# Altium footprint library ICs.PcbLib: 8 footprints
Each footprint in its own frame and in the unit in brackets; x right, y up, seen from the top. Pads: shape width x height; smd on the part's side, far side on the other; paste and mask are expansions set on the pad; w line width, h text height; cw(c..) or ccw(c..) is an arc to the next point about the centre after c.
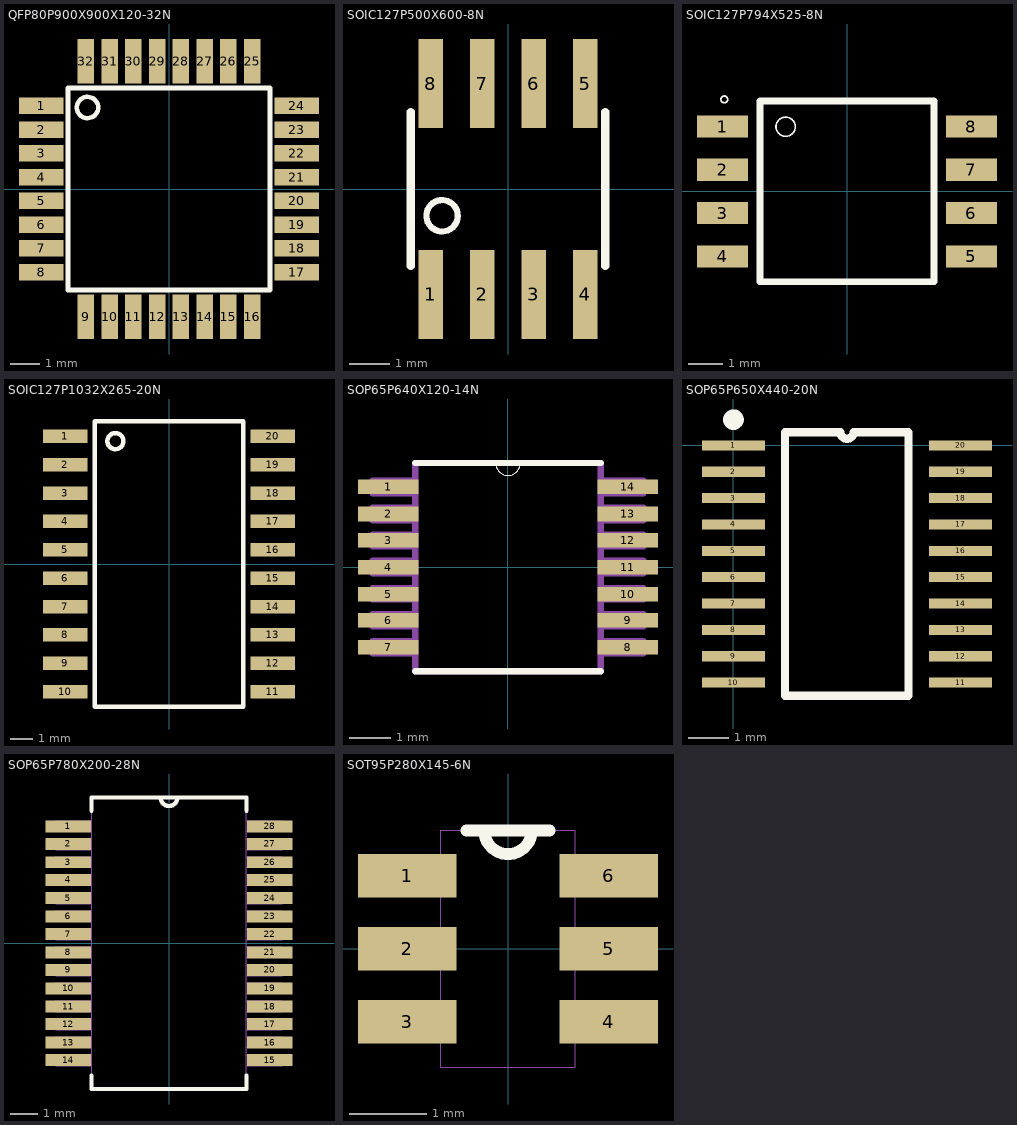
[diagram p0: the footprints below, top view; thin cyan lines are the x and y axes]

## QFP80P900X900X120-32N [mm]
pads (32):
  rect 1.5x0.55 smd: 1(-4.3,2.8) 2(-4.3,2) 3(-4.3,1.2) 4(-4.3,0.4) 5(-4.3,-0.4) 6(-4.3,-1.2) 7(-4.3,-2) 8(-4.3,-2.8) 17(4.3,-2.8) 18(4.3,-2) 19(4.3,-1.2) 20(4.3,-0.4) 21(4.3,0.4) 22(4.3,1.2) 23(4.3,2) 24(4.3,2.8)
  rect 0.55x1.5 smd: 9(-2.8,-4.3) 10(-2,-4.3) 11(-1.2,-4.3) 12(-0.4,-4.3) 13(0.4,-4.3) 14(1.2,-4.3) 15(2,-4.3) 16(2.8,-4.3) 25(2.8,4.3) 26(2,4.3) 27(1.2,4.3) 28(0.4,4.3) 29(-0.4,4.3) 30(-1.2,4.3) 31(-2,4.3) 32(-2.8,4.3)
Top Overlay:
  circle w0.152: c-2.743,2.743 r0.359
  lines w0.152: -3.4,-3.4 -3.4,3.4 3.4,3.4 3.4,-3.4 -3.4,-3.4

## SOIC127P500X600-8N [mm]
pads (8):
  rect 0.6x2.2 smd: 1(-1.905,-2.6) 2(-0.635,-2.6) 3(0.635,-2.6) 4(1.905,-2.6) 5(1.905,2.6) 6(0.635,2.6) 7(-0.635,2.6) 8(-1.905,2.6)
Top Overlay:
  circle w0.152: c-1.626,-0.66 r0.388
  lines w0.203: -2.4,-1.9 -2.4,-1.4 -2.4,1.9 ; 2.4,-1.9 2.4,-1.4 2.4,1.9
Mechanical 1:
  region: -2.152,3.1 -1.66,3.1 -1.66,2.002 -2.152,2.002
  region: -0.882,3.1 -0.39,3.1 -0.39,2.004 -0.882,2.004
  region: 0.391,3.1 0.88,3.1 0.88,2.005 0.391,2.005
  region: 1.663,3.1 2.15,3.1 2.15,2.004 1.663,2.004
  region: 1.662,-2 2.15,-2 2.15,-3.103 1.662,-3.103
  region: 0.39,-2 0.88,-2 0.88,-3.103 0.39,-3.103
  region: -0.882,-2 -0.39,-2 -0.39,-3.108 -0.882,-3.108
  region: -2.157,-2 -1.66,-2 -1.66,-3.11 -2.157,-3.11

## SOIC127P794X525-8N [mm]
pads (8):
  rect 1.5x0.65 smd: 1(-3.65,1.905) 2(-3.65,0.635) 3(-3.65,-0.635) 4(-3.65,-1.905) 5(3.65,-1.905) 6(3.65,-0.635) 7(3.65,0.635) 8(3.65,1.905)
Top Overlay:
  circle w0.05: c-1.8,1.9 r0.283
  circle w0.05: c-3.6,2.7 r0.1
  lines w0.2: -2.55,-2.65 2.55,-2.65 2.55,2.65 -2.55,2.65 -2.55,-2.65

## SOIC127P1032X265-20N [mm]
pads (20):
  rect 2x0.6 smd: 1(-4.65,5.715) 2(-4.65,4.445) 3(-4.65,3.175) 4(-4.65,1.905) 5(-4.65,0.635) 6(-4.65,-0.635) 7(-4.65,-1.905) 8(-4.65,-3.175) 9(-4.65,-4.445) 10(-4.65,-5.715) 11(4.65,-5.715) 12(4.65,-4.445) 13(4.65,-3.175) 14(4.65,-1.905) 15(4.65,-0.635) 16(4.65,0.635) 17(4.65,1.905) 18(4.65,3.175) 19(4.65,4.445) 20(4.65,5.715)
Top Overlay:
  circle w0.2: c-2.4,5.5 r0.361
  lines w0.2: -3.325,-6.4 3.325,-6.4 3.325,6.4 -3.325,6.4 -3.325,-6.4

## SOP65P640X120-14N [mil]
pads (14):
  rect 58x14 smd: 1(-115,77) 2(-115,51) 3(-115,26) 4(-115,0) 5(-115,-26) 6(-115,-51) 7(-115,-77) 8(115,-77) 9(115,-51) 10(115,-26) 11(115,0) 12(115,26) 13(115,51) 14(115,77)
Top Overlay:
  lines w0: -12,100 ccw(c0,100) 12,100
  lines w6: -89,-100 89,-100 ; -89,100 -12,100 12,100 89,100
Mechanical 1:
  lines w0: -12,100 ccw(c0,100) 12,100
  lines w6: -130,-83 -130,-71 -89,-71 -89,-83 -130,-83 ; -130,-57 -130,-45 -89,-45 -89,-57 -130,-57 ; -130,-31 -130,-20 -89,-20 -89,-31 -130,-31 ; -130,-6 -130,6 -89,6 -89,-6 -130,-6 ; -130,20 -130,31 -89,31 -89,20 -130,20 ; -130,45 -130,57 -89,57 -89,45 -130,45 ; -130,71 -130,83 -89,83 -89,71 -130,71 ; -89,-100 89,-100 89,100 12,100 -12,100 -89,100 -89,-100 ; 89,-83 89,-71 130,-71 130,-83 89,-83 ; 89,-57 89,-45 130,-45 130,-57 89,-57 ; 89,-31 89,-20 130,-20 130,-31 89,-31 ; 89,-6 89,6 130,6 130,-6 89,-6 ; 89,20 89,31 130,31 130,20 89,20 ; 89,45 89,57 130,57 130,45 89,45 ; 89,71 89,83 130,83 130,71 89,71

## SOP65P650X440-20N [mm]
pads (20):
  rect 1.55x0.25 smd: 1(0,0) 2(0,-0.65) 3(0,-1.3) 4(0,-1.95) 5(0,-2.6) 6(0,-3.25) 7(0,-3.9) 8(0,-4.55) 9(0,-5.2) 10(0,-5.85) 11(5.6,-5.85) 12(5.6,-5.2) 13(5.6,-4.55) 14(5.6,-3.9) 15(5.6,-3.25) 16(5.6,-2.6) 17(5.6,-1.95) 18(5.6,-1.3) 19(5.6,-0.65) 20(5.6,0)
Top Overlay:
  circle w0.254: c0,0.635 r0.127
  lines w0.2: 1.27,-6.175 1.27,0.325 2.638,0.325 ccw(c2.8,0.325) 2.962,0.325 4.318,0.325 4.318,-6.175 1.27,-6.175

## SOP65P780X200-28N [mil]
pads (28):
  rect 65x17 smd: 1(-143,166) 2(-143,141) 3(-143,115) 4(-143,90) 5(-143,64) 6(-143,38) 7(-143,13) 8(-143,-13) 9(-143,-38) 10(-143,-64) 11(-143,-90) 12(-143,-115) 13(-143,-141) 14(-143,-166) 15(143,-166) 16(143,-141) 17(143,-115) 18(143,-90) 19(143,-64) 20(143,-38) 21(143,-13) 22(143,13) 23(143,38) 24(143,64) 25(143,90) 26(143,115) 27(143,141) 28(143,166)
Top Overlay:
  lines w6: -110,-188 -110,-207 110,-207 110,-188 ; -110,188 -110,207 -12,207 ; 110,188 110,207 12,207 ; -12,207 ccw(c0,207) 12,207 ; -12,207 12,207
Mechanical 1:
  lines w0: -12,207 ccw(c0,207) 12,207 ; -12,207 -110,207 -110,-207 110,-207 110,207 12,207 ; -12,207 12,207 ; -161,-174 -110,-174 -110,-159 -161,-159 -161,-174 ; -161,-148 -110,-148 -110,-133 -161,-133 -161,-148 ; -161,-123 -110,-123 -110,-108 -161,-108 -161,-123 ; -161,-97 -110,-97 -110,-82 -161,-82 -161,-97 ; -161,-71 -110,-71 -110,-56 -161,-56 -161,-71 ; -161,-46 -110,-46 -110,-31 -161,-31 -161,-46 ; -161,-20 -110,-20 -110,-5 -161,-5 -161,-20 ; -161,5 -110,5 -110,20 -161,20 -161,5 ; -161,31 -110,31 -110,46 -161,46 -161,31 ; -161,56 -110,56 -110,71 -161,71 -161,56 ; -161,82 -110,82 -110,97 -161,97 -161,82 ; -161,108 -110,108 -110,123 -161,123 -161,108 ; -161,133 -110,133 -110,148 -161,148 -161,133 ; -161,159 -110,159 -110,174 -161,174 -161,159 ; 110,-174 161,-174 161,-159 110,-159 110,-174 ; 110,-148 161,-148 161,-133 110,-133 110,-148 ; 110,-123 161,-123 161,-108 110,-108 110,-123 ; 110,-97 161,-97 161,-82 110,-82 110,-97 ; 110,-71 161,-71 161,-56 110,-56 110,-71 ; 110,-46 161,-46 161,-31 110,-31 110,-46 ; 110,-20 161,-20 161,-5 110,-5 110,-20 ; 110,5 161,5 161,20 110,20 110,5 ; 110,31 161,31 161,46 110,46 110,31 ; 110,56 161,56 161,71 110,71 110,56 ; 110,82 161,82 161,97 110,97 110,82 ; 110,108 161,108 161,123 110,123 110,108 ; 110,133 161,133 161,148 110,148 110,133 ; 110,159 161,159 161,174 110,174 110,159

## SOT95P280X145-6N [mil]
pads (6):
  rect 50x22 smd: 1(-51,37) 2(-51,0) 3(-51,-37) 4(51,-37) 5(51,0) 6(51,37)
Top Overlay:
  lines w6: -21,60 -12,60 ; 21,60 12,60 ; -12,60 ccw(c0,60) 12,60 ; -12,60 12,60
Mechanical 1:
  lines w0: -34,-47 -59,-47 -59,-28 -34,-28 ; -34,-47 -34,-28 ; -34,-47 -34,-60 34,-60 34,-47 ; -34,-28 -34,-10 ; -34,-10 -59,-10 -59,10 -34,10 ; -34,-10 -34,10 ; -34,10 -34,28 ; -34,28 -59,28 -59,47 -34,47 ; -34,28 -34,47 ; -34,47 -34,60 -12,60 ; -12,60 ccw(c0,60) 12,60 ; -12,60 12,60 ; 12,60 34,60 34,47 ; 34,-47 59,-47 59,-28 34,-28 ; 34,-47 34,-28 ; 34,-28 34,-10 ; 34,-10 59,-10 59,10 34,10 ; 34,-10 34,10 ; 34,10 34,28 ; 34,28 59,28 59,47 34,47 ; 34,28 34,47